# Altium footprint library footprintLIB.PcbLib: 52 footprints (part 4 of 4)
Each footprint in its own frame and in the unit in brackets; x right, y up, seen from the top. Pads: shape width x height; smd on the part's side, far side on the other; paste and mask are expansions set on the pad; w line width, h text height; cw(c..) or ccw(c..) is an arc to the next point about the centre after c.
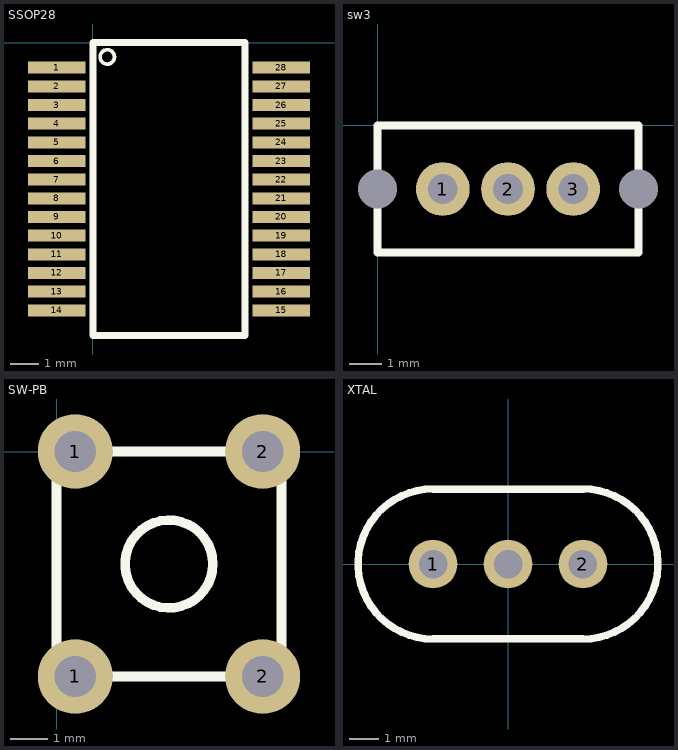
[diagram p3: the footprints below, top view; thin cyan lines are the x and y axes]

## SSOP28 [mm] "SSOP28forPL2303"
pads (28):
  rect 2x0.42 smd: 1(-1.254,-0.875) 2(-1.254,-1.525) 3(-1.254,-2.175) 4(-1.254,-2.825) 5(-1.254,-3.475) 6(-1.254,-4.125) 7(-1.254,-4.775) 8(-1.254,-5.425) 9(-1.254,-6.075) 10(-1.254,-6.725) 11(-1.254,-7.375) 12(-1.254,-8.025) 13(-1.254,-8.675) 14(-1.254,-9.325) 15(6.554,-9.325) 16(6.554,-8.675) 17(6.554,-8.025) 18(6.554,-7.375) 19(6.554,-6.725) 20(6.554,-6.075) 21(6.554,-5.425) 22(6.554,-4.775) 23(6.554,-4.125) 24(6.554,-3.475) 25(6.554,-2.825) 26(6.554,-2.175) 27(6.554,-1.525) 28(6.554,-0.875)
Top Overlay:
  circle w0.127: c0.5,-0.5 r0.25
  lines w0.254: 0,-10.2 5.3,-10.2 5.3,0 0,0 0,-10.2

## sw3 [mm]
pads (5):
  round 1.651 hole 0.914: 1(2,-1.95) 2(4,-1.95) 3(6,-1.95)
  round 0 hole 1.2: ""(0,-1.95) ""(8,-1.95)
Top Overlay:
  lines w0.254: 0,-3.9 0,0 8,0 8,-3.9 0,-3.9

## SW-PB [mm]
pads (4):
  round 2 hole 1.1: 1(0.5,-6) 1(0.5,0) 2(5.5,-6) 2(5.5,0)
Top Overlay:
  circle w0.254: c3,-3 r1.171
  lines w0.254: 0,-6 0,0 6,0 6,-6 0,-6

## XTAL [mil]
pads (3):
  round 65 hole 38: 1(-100,0) 2(100,0) ""(0,0)
Top Overlay:
  lines w10: -100,-100 cw(c-100,0) -100,100 100,100 cw(c100,0) 100,-100 -100,-100